# Altium schematic symbol library Crystall.SchLib: 6 symbols
Pins are listed as number, name and electrical type; pins without a type are passive.

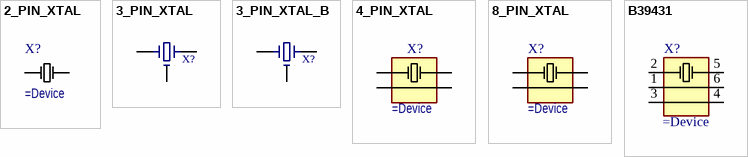
[diagram p0: symbols 2_PIN_XTAL to B39431]

## 2_PIN_XTAL
designator X?
Кварцевый резонатор
pins: 1, 2

## 3_PIN_XTAL
designator X?
pins: 1, 2, 3

## 3_PIN_XTAL_B
designator X?
pins: 1, 2, 3

## 4_PIN_XTAL
designator X?
3*2.5 mm SMD Crystall
pins: 1, 2, 3, 4

## 8_PIN_XTAL
designator X?
5*5 mm SMD Crystall
pins: 2, 4, 6, 8

## B39431
designator X?
Part Number: B39431R 920H110; Family: R920
footprint B39431R 920H110
pins: 1, 2, 3, 4, 5, 6